# Altium footprint library SRP7030CA.PcbLib: 1 footprints
Each footprint in its own frame and in the unit in brackets; x right, y up, seen from the top. Pads: shape width x height; smd on the part's side, far side on the other; paste and mask are expansions set on the pad; w line width, h text height; cw(c..) or ccw(c..) is an arc to the next point about the centre after c.
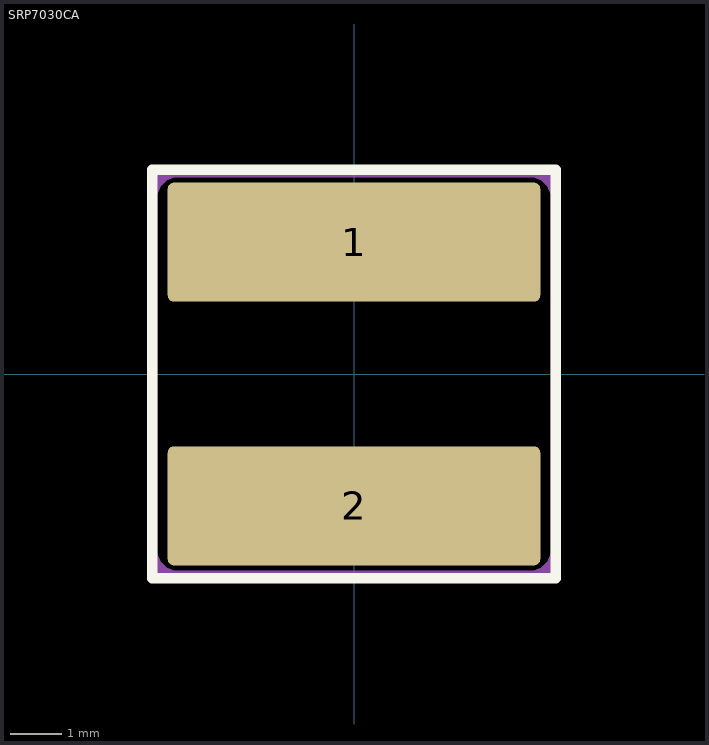
[diagram p0: the footprint, top view; thin cyan lines are the x and y axes]

## SRP7030CA [mm]
height 11
pads (2):
  rrect10% 7.2x2.3 smd: 1(0,2.55) 2(0,-2.55)
Top Overlay:
  lines w0.2: -3.9,-3.95 3.9,-3.95 3.9,3.95 -3.9,3.95 -3.9,-3.95
Mechanical 13 (Mech13):
  lines w0.2: -3.9,-3.4 ccw(c-3.4,-3.4) -3.4,-3.9 3.4,-3.9 ccw(c3.4,-3.4) 3.9,-3.4 3.9,3.4 ccw(c3.4,3.4) 3.4,3.9 -3.4,3.9 ccw(c-3.4,3.4) -3.9,3.4 -3.9,-3.4
3D body: height 3.1, standoff 0.3, extent -3.9,-3.9 3.9,3.9